# Altium footprint library USB_isolator.PcbLib: 19 footprints (part 2 of 2)
Each footprint in its own frame and in the unit in brackets; x right, y up, seen from the top. Pads: shape width x height; smd on the part's side, far side on the other; paste and mask are expansions set on the pad; w line width, h text height; cw(c..) or ccw(c..) is an arc to the next point about the centre after c.
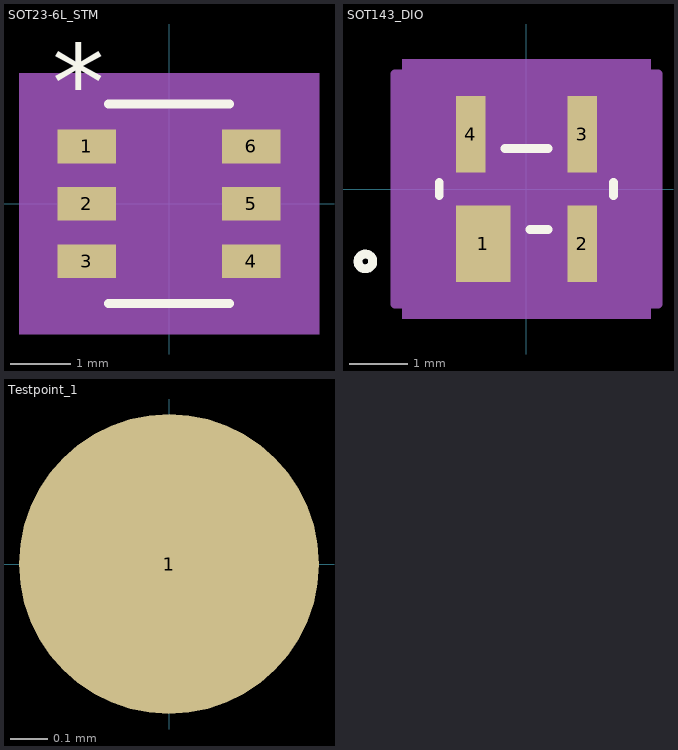
[diagram p1: the footprints below, top view; thin cyan lines are the x and y axes]

## SOT23-6L_STM [mm]
pads (6):
  rect 0.972x0.558 smd paste+0 mask+0: 1(-1.362,0.95) 2(-1.362,0) 3(-1.362,-0.95) 4(1.362,-0.95) 5(1.362,0) 6(1.362,0.95)
Top Overlay:
  lines w0.152: -1.003,-1.651 1.003,-1.651 ; -1.003,1.651 1.003,1.651
  text "*" at -1.934,1.381 h1.27
Mechanical 5:
  region: 2.484,-2.159 -2.484,-2.159 -2.484,2.159 2.484,2.159
Mechanical 13:
  lines w0: -0.305,1.524 ccw(c0,1.524) 0.305,1.524
  lines w0.025: -1.499,-1.204 -0.876,-1.204 -0.876,-0.696 -1.499,-0.696 -1.499,-1.204 ; -1.499,-0.254 -0.876,-0.254 -0.876,0.254 -1.499,0.254 -1.499,-0.254 ; -1.499,0.696 -0.876,0.696 -0.876,1.204 -1.499,1.204 -1.499,0.696 ; -0.876,-1.524 -0.876,1.524 0.876,1.524 0.876,-1.524 -0.876,-1.524 ; 0.876,-1.204 1.499,-1.204 1.499,-0.696 0.876,-0.696 0.876,-1.204 ; 0.876,-0.254 1.499,-0.254 1.499,0.254 0.876,0.254 0.876,-0.254 ; 0.876,0.696 1.499,0.696 1.499,1.204 0.876,1.204 0.876,0.696
  text "*" at -0.813,0.178 h1.27
Mechanical 15:
  region: -1.13,-1.483 -2.103,-1.483 -2.103,1.483 -1.13,1.483 -1.13,1.778 1.13,1.778 1.13,1.483 2.103,1.483 2.103,-1.483 1.13,-1.483 1.13,-1.778 -1.13,-1.778
  lines w0.152: -2.103,-1.483 -1.13,-1.483 -1.13,-1.778 1.13,-1.778 1.13,-1.483 2.103,-1.483 2.103,1.483 1.13,1.483 1.13,1.778 -1.13,1.778 -1.13,1.483 -2.103,1.483 -2.103,-1.483
3D body "SOT23-6L_STM.step": height 1.45, standoff 0, extent -1.499,-1.524 1.499,1.524

## SOT143_DIO [mil]
pads (4):
  rect 37x51.56 smd paste+0 mask+0: 1(-29.3,-37)
  rect 20x51.56 smd paste+0 mask+0: 2(37.8,-37) 3(37.8,37) 4(-37.8,37)
Top Overlay:
  circle w6: c-109,-49 r5
  lines w6: -59,-4.43 -59,4.43 ; -14.7,27.5 14.7,27.5 ; 2.3,-27.5 14.7,-27.5 ; 59,-4.43 59,4.43
Mechanical 5:
  region: -84,87.78 84,87.78 84,-87.78 -84,-87.78
Mechanical 13:
  circle w0: c-49,-17.5 r5
  lines w1: -59,-27.5 59,-27.5 59,27.5 -59,27.5 -59,-27.5 ; -47.8,-49 -47.8,-27.5 -10.8,-27.5 -10.8,-49 -47.8,-49 ; -47.8,27.5 -27.8,27.5 -27.8,49 -47.8,49 -47.8,27.5 ; 27.8,-49 27.8,-27.5 47.8,-27.5 47.8,-49 27.8,-49 ; 27.8,27.5 47.8,27.5 47.8,49 27.8,49 27.8,27.5
Mechanical 15:
  region: -89,-77.78 -89,77.78 89,77.78 89,-77.78
  lines w6: -89,-77.78 89,-77.78 89,77.78 -89,77.78 -89,-77.78
3D body "SOT143_DIO.step": height 43.11, standoff 0, extent -59.02,-49.02 59.02,49.02

## Testpoint_1 [mm]
pads (1):
  round 0.8 smd: 1(0,0)